# EAGLE library part SST39SF010A-55-4I-NHE-T (library User-Submitted)
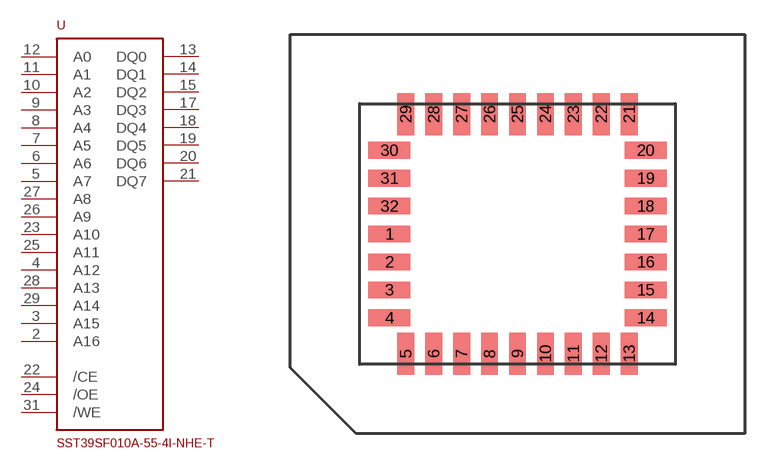
[diagram p31: symbol with the pads of CNC-232-32; footprint CNC-232-32]

Designator prefix -

## SST39SF010A-55-4I-NHE-T  [CNC-232-32]
2  A16
3  A15
4  A12
5  A7
6  A6
7  A5
8  A4
9  A3
10  A2
11  A1
12  A0
13  DQ0
14  DQ1
15  DQ2
17  DQ3
18  DQ4
19  DQ5
20  DQ6
21  DQ7
22  /CE
23  A10
24  /OE
25  A11
26  A9
27  A8
28  A13
29  A14
31  /WE

## Footprint CNC-232-32 (pad centres in mm)
smd 1.91 x 0.76: 1 -5.825,0; 2 -5.825,-1.27; 3 -5.825,-2.54; 4 -5.825,-3.81; 14 5.825,-3.81; 15 5.825,-2.54; 16 5.825,-1.27; 17 5.825,0; 18 5.825,1.27; 19 5.825,2.54; 20 5.825,3.81; 30 -5.825,3.81; 31 -5.825,2.54; 32 -5.825,1.27
smd 0.76 x 1.91: 5 -5.08,-5.445; 6 -3.81,-5.445; 7 -2.54,-5.445; 8 -1.27,-5.445; 9 0,-5.445; 10 1.27,-5.445; 11 2.54,-5.445; 12 3.81,-5.445; 13 5.08,-5.445; 21 5.08,5.445; 22 3.81,5.445; 23 2.54,5.445; 24 1.27,5.445; 25 0,5.445; 26 -1.27,5.445; 27 -2.54,5.445; 28 -3.81,5.445; 29 -5.08,5.445